# Altium footprint library WunderBar_v102b.PcbLib: 47 footprints (part 3 of 3)
Each footprint in its own frame and in the unit in brackets; x right, y up, seen from the top. Pads: shape width x height; smd on the part's side, far side on the other; paste and mask are expansions set on the pad; w line width, h text height; cw(c..) or ccw(c..) is an arc to the next point about the centre after c.
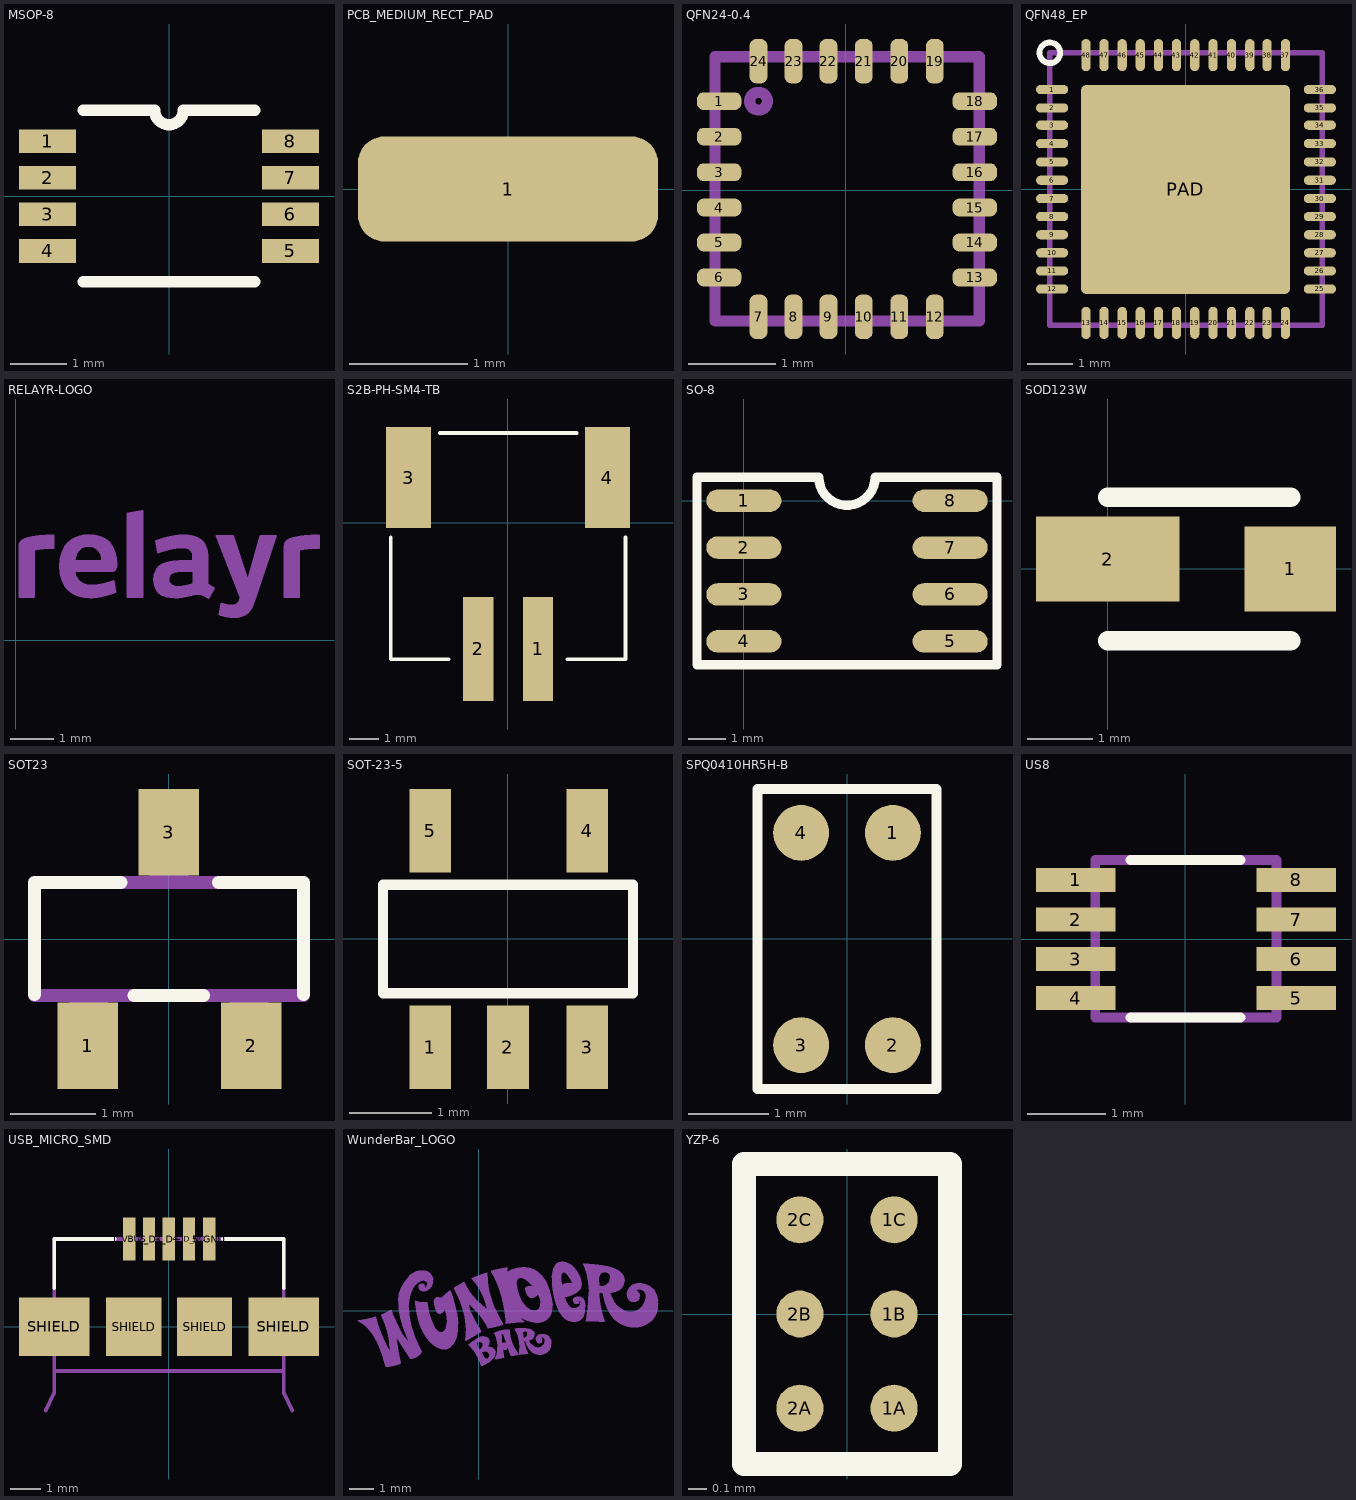
[diagram p2: the footprints below, top view; thin cyan lines are the x and y axes]

## MSOP-8 [mil]
pads (8):
  rect 40x16.5 smd mask+3: 1(-85,38.4) 2(-85,12.8) 3(-85,-12.8) 4(-85,-38.4) 5(85,-38.4) 6(85,-12.8) 7(85,12.8) 8(85,38.4)
Top Overlay:
  lines w8: -60,-60 60,-60 ; -60,60 -10,60 ccw(c0,60) 10,60 60,60

## PCB_MEDIUM_RECT_PAD [mil] "PCB_MEDIUM_RECT_PAD"
pads (1):
  rrect50% 100x35 smd paste-102.36: 1(0,0)

## QFN24-0.4 [mil] "QFN24-0.4"
pads (24):
  rrect75% 20x8 smd mask+4: 1(-57.09,40) 2(-57.09,24) 3(-57.09,8) 4(-57.09,-7.87) 5(-57.09,-23.62) 6(-57.09,-39.37) 13(58,-39.37) 14(58,-23.62) 15(58,-7.87) 16(58,8) 17(58,24) 18(58,40)
  rrect75% 8x20 smd mask+4: 7(-39.37,-57.09) 8(-23.62,-57.09) 9(-7.87,-57.09) 10(8,-57.09) 11(24,-57.09) 12(40,-57.09) 19(40,58) 20(24,58) 21(8,58) 22(-7.87,58) 23(-23.62,58) 24(-39.37,58)
Mechanical 16:
  circle w5: c-39.37,40 r4
  lines w5: -59.06,-59.06 -59.06,60 60,60 60,-59.06 -59.06,-59.06

## QFN48_EP [mil] "QFN48_EP"
pads (49):
  rrect100% 28x8 smd mask+3: 1(-116.14,87) 2(-116.14,71) 3(-116.14,56) 4(-116.14,40) 5(-116.14,24) 6(-116.14,8) 7(-116.14,-7.87) 8(-116.14,-23.62) 9(-116.14,-39.37) 10(-116.14,-55.12) 11(-116.14,-70.87) 12(-116.14,-86.61) 25(117,-86.61) 26(117,-70.87) 27(117,-55.12) 28(117,-39.37) 29(117,-23.62) 30(117,-7.87) 31(117,8) 32(117,24) 33(117,40) 34(117,56) 35(117,71) 36(117,87)
  rrect100% 8x28 smd mask+3: 13(-86.61,-116.14) 14(-70.87,-116.14) 15(-55.12,-116.14) 16(-39.37,-116.14) 17(-23.62,-116.14) 18(-7.87,-116.14) 19(8,-116.14) 20(24,-116.14) 21(40,-116.14) 22(56,-116.14) 23(71,-116.14) 24(87,-116.14) 37(87,117) 38(71,117) 39(56,117) 40(40,117) 41(24,117) 42(8,117) 43(-7.87,117) 44(-23.62,117) 45(-39.37,117) 46(-55.12,117) 47(-70.87,117) 48(-86.61,117)
  rrect5% 182x182 smd: PAD(0,0)
Top Overlay:
  circle w5: c-118.11,119 r9
Mechanical 16:
  lines w5: -118.11,-118.11 119,-118.11 ; -118.11,-118.11 -118.11,119 ; -118.11,-118.11 119,-118.11 ; -118.11,-118.11 -118.11,119 ; -118.11,119 119,119 ; -118.11,119 119,119 ; 119,-118.11 119,119 ; 119,-118.11 119,119
3D body: height 33.39, standoff -0.79, extent -118.15,-119.34 119.64,118.46

## RELAYR-LOGO [mil] "RELAYR-LOGO"
Top Solder:
  drawing of 2252 lines, arcs and shapes, not listed

## S2B-PH-SM4-TB [mil] "S2B-PH-SM4-TB"
pads (4):
  rect 40x138 smd: 1(40,-167.32) 2(-39.37,-167.32)
  rect 60x134 smd: 3(-131.89,60) 4(132,60)
Top Overlay:
  lines w5: -155.51,-19.68 -155.51,-181.1 -78.74,-181.1 ; -90.55,119 91,119 ; 79,-181.1 156,-181.1 156,-19.68

## SO-8 [mil]
pads (8):
  oval 80x24 smd: 1(0,0) 2(0,-50) 3(0,-100) 4(0,-150) 5(220,-150) 6(220,-100) 7(220,-50) 8(220,0)
Top Overlay:
  lines w10: -50,-175 -50,25 80,25 ccw(c110,25) 140,25 270,25 270,-175 -50,-175

## SOD123W [mm]
pads (2):
  rect 1.4x1.3 smd: 1(2.8,0)
  rect 2.2x1.3 smd: 2(0,0.152)
Top Overlay:
  lines w0.305: 0,-1.1 2.8,-1.1 ; 0,1.1 2.8,1.1
3D body: height 1.1, standoff -0.01, extent -0.8,-0.95 3.2,0.95

## SOT23 [mil] "SOT23"
pads (3):
  rect 28x40 smd: 1(-37.4,-49.21) 2(38,-49.21) 3(0,49.21)
Top Overlay:
  lines w6: -61.91,-25.68 -61.91,26 -22.19,26 ; -16,-26 16,-26 ; 23,26 62,26 62,-25.68
Mechanical 16:
  rectangle: -46,-51 -28,-28
  rectangle: 28,-51 46,-28
  rectangle: -9,28 9,51
  lines w6: -61.91,-26 -61.91,26 62,26 62,-26 -61.91,-26
3D body: height 51.18, standoff 0, extent -57.09,-54.96 57.09,55.28

## SOT-23-5 [mil] "SOT-23-5"
pads (5):
  rect 20x40 smd mask+3: 1(-37.4,-52) 2(0,-52) 3(38,-52) 4(38,52) 5(-37.4,52)
Top Overlay:
  lines w5: -60,-26 -60,26 60,26 60,-26 -60,-26
3D body: height 57.09, standoff 0, extent -57.08,-55.11 57.09,55.12

## SPQ0410HR5H-B [mm]
pads (4):
  round 0.7 smd: 1(0.575,1.33) 2(0.575,-1.33) 3(-0.575,-1.33) 4(-0.575,1.33)
Top Overlay:
  lines w0.127: -1.122,-1.88 -1.122,1.88 ; -1.12,-1.88 1.12,-1.88 ; -1.12,1.88 1.12,1.88 ; 1.122,-1.88 1.122,1.88

## US8 [mil] "US8"
pads (8):
  rect 40x12 smd: 1(-55.12,30) 2(-55.12,10) 3(-55.12,-9.84) 4(-55.12,-29.53) 5(56,-29.53) 6(56,-9.84) 7(56,10) 8(56,30)
Top Overlay:
  lines w5: -27.56,-39.37 28,-39.37 ; -27.56,40 28,40
Mechanical 16:
  lines w5: -45.28,-39.37 46,-39.37 46,40 -45.28,40 -45.28,-39.37

## USB_MICRO_SMD [mil] "USB_MICRO_SMD"
pads (9):
  rect 16x56 smd: 1_VBUS(-51.18,113) 2_D-(-25.59,113) 3_D+(0,113) 4_ID_NC(26,113) 5_GND(52,113)
  rect 91x75 smd: SHIELD(-147.64,0) SHIELD(148,0)
  rect 71x75 smd: SHIELD(-45.28,0) SHIELD(46,0)
Top Overlay:
  lines w5: -147.64,50 -147.64,113 -70,113 ; 70,113 148,113 148,50
Mechanical 16:
  lines w5: -158.66,-108.27 -147.64,-84.65 -147.64,-57.09 ; -155.51,-17.72 -155.51,18 ; 156,-17.72 156,18 ; 159,-108.27 148,-84.65 148,-57.09 ; -147.64,-57.09 -147.64,113 148,113 148,-57.09 ; -147.64,-57.09 148,-57.09

## WunderBar_LOGO [mil]
Top Solder:
  drawing of 26051 lines, arcs and shapes, not listed

## YZP-6 [mm]
pads (6):
  round 0.25 smd: 1A(0.25,-0.5) 1B(0.25,0) 1C(0.25,0.5) 2A(-0.25,-0.5) 2B(-0.25,0) 2C(-0.25,0.5)
Top Overlay:
  lines w0.127: -0.547,-0.797 -0.547,0.797 0.547,0.797 0.547,-0.797 -0.547,-0.797